# Altium footprint library Surface_mount_regulator.PcbLib: 2 footprints
Each footprint in its own frame and in the unit in brackets; x right, y up, seen from the top. Pads: shape width x height; smd on the part's side, far side on the other; paste and mask are expansions set on the pad; w line width, h text height; cw(c..) or ccw(c..) is an arc to the next point about the centre after c.
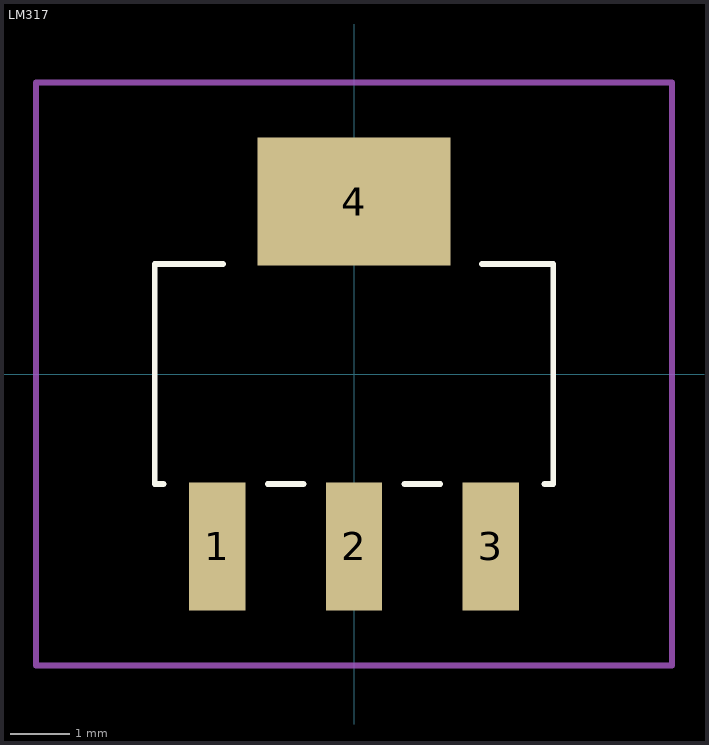
[diagram p0: the footprints below, top view; thin cyan lines are the x and y axes]

## LM317 [mm] "Texas Instruments 3 terminal adjustable regulator"
height 2.6
pads (4):
  rect 0.95x2.15 smd: 1(-2.3,-2.9) 2(0,-2.9) 3(2.3,-2.9)
  rect 3.25x2.15 smd: 4(0,2.9)
Top Overlay:
  lines w0.1: -3.2,-1.85 -3.35,-1.85 -3.35,1.85 -2.2,1.85 ; -1.45,-1.85 -0.85,-1.85 ; 0.85,-1.85 1.45,-1.85 ; 2.15,1.85 3.35,1.85 3.35,-1.85 3.2,-1.85
Mechanical 15:
  lines w0.1: -5.35,-4.9 5.35,-4.9 5.35,4.9 -5.35,4.9 -5.35,-4.9
3D body: height 2.6, standoff 0.8, extent -3.3,-1.8 3.3,1.8

## PCBComponent_1 - duplicate [mm]